# Altium footprint library 691 701 500 0xx B.PcbLib: 11 footprints
Each footprint in its own frame and in the unit in brackets; x right, y up, seen from the top. Pads: shape width x height; smd on the part's side, far side on the other; paste and mask are expansions set on the pad; w line width, h text height; cw(c..) or ccw(c..) is an arc to the next point about the centre after c.
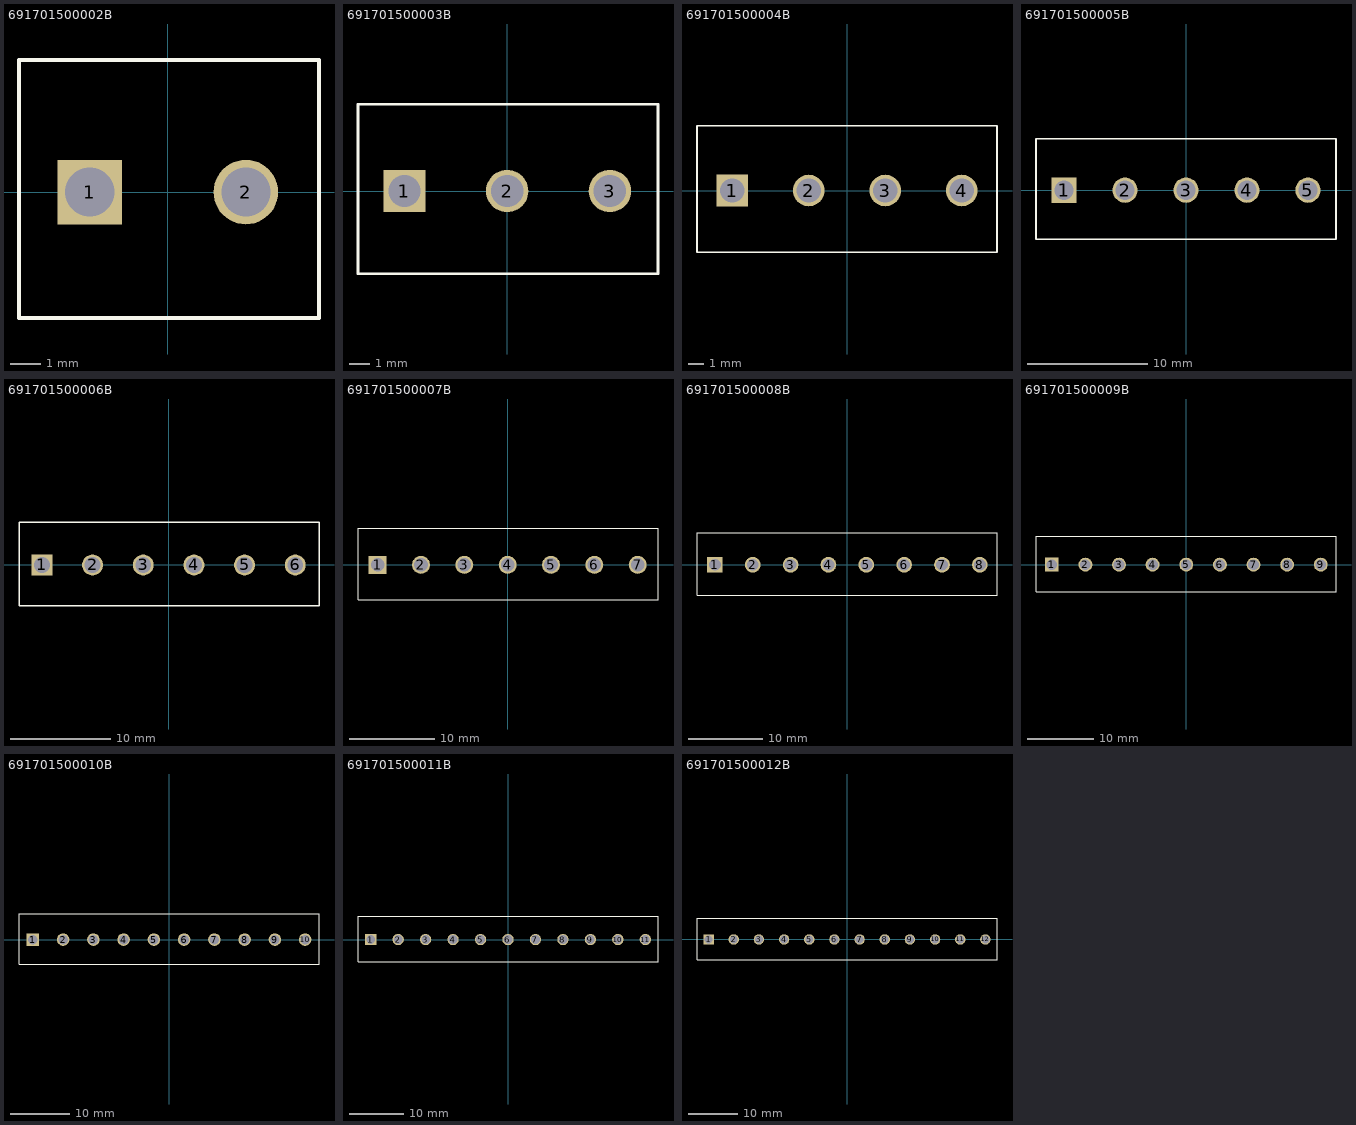
[diagram p0: the footprints below, top view; thin cyan lines are the x and y axes]

## 691701500002B [mm] "THR - 5,08mm - PCB Vertical Open - 02p"
height 12
pads (2):
  rect 2.1x2.1 hole 1.6: 1(-2.54,0)
  round 2.1 hole 1.6: 2(2.54,0)
Top Overlay:
  lines w0.127: -4.84,-4.1 -4.84,4.3 ; -4.84,-4.1 4.92,-4.1 ; -4.84,-4.1 4.92,-4.1 ; -4.84,-4.1 -4.84,4.3 ; -4.84,4.3 4.92,4.3 ; -4.84,4.3 4.92,4.3 ; 4.92,-4.1 4.92,4.3
3D body: height 12.2, standoff -2.4, extent -4.88,-3.9 4.88,4.6

## 691701500003B [mm] "THR - 5,08mm - PCB Vertical Open - 03p"
height 12
pads (3):
  rect 2.1x2.1 hole 1.6: 1(-5.08,0)
  round 2.1 hole 1.6: 2(0,0) 3(5.08,0)
Top Overlay:
  lines w0.127: 7.38,-4.1 -7.38,-4.1 ; 7.38,4.3 -7.38,4.3 ; -7.38,-4.1 -7.38,4.3 ; -7.38,-4.1 7.46,-4.1 7.46,4.3 -7.38,4.3 ; -7.38,-4.1 -7.38,4.3
3D body: height 12.2, standoff -2.4, extent -7.42,-4.5 7.42,4

## 691701500004B [mm] "THR - 5,08mm - PCB Vertical Open - 04p"
height 12
pads (4):
  rect 2.1x2.1 hole 1.6: 1(-7.62,0)
  round 2.1 hole 1.6: 2(-2.54,0) 3(2.54,0) 4(7.62,0)
Top Overlay:
  lines w0.127: -9.92,-4.1 9.96,-4.1 9.96,4.3 -9.92,4.3 ; 9.92,-4.1 -9.96,-4.1 -9.96,4.3 9.92,4.3
3D body: height 12.2, standoff -2.4, extent -9.86,-4 10.06,4.5

## 691701500005B [mm] "THR - 5,08mm - PCB Vertical Open - 05p"
height 12
pads (5):
  rect 2.1x2.1 hole 1.6: 1(-10.16,0)
  round 2.1 hole 1.6: 2(-5.08,0) 3(0,0) 4(5.08,0) 5(10.16,0)
Top Overlay:
  lines w0.127: -12.46,-4.1 12.5,-4.1 12.5,4.3 -12.46,4.3 ; 12.46,-4.1 -12.5,-4.1 -12.5,4.3 12.46,4.3
3D body: height 12.2, standoff -2.4, extent -12.4,-3.9 12.6,4.6

## 691701500006B [mm] "THR - 5,08mm - PCB Vertical Open - 06p"
height 12
pads (6):
  rect 2.1x2.1 hole 1.6: 1(-12.7,0)
  round 2.1 hole 1.6: 2(-7.62,0) 3(-2.54,0) 4(2.54,0) 5(7.62,0) 6(12.7,0)
Top Overlay:
  lines w0.127: -15,-4.1 -15,4.3 ; -15,-4.1 15.08,-4.1 ; -15,-4.1 15.08,-4.1 ; -15,-4.1 -15,4.3 ; -15,4.3 15.08,4.3 ; -15,4.3 15.08,4.3 ; 15.08,-4.1 15.08,4.3
3D body: height 12.1, standoff -2.5, extent -15.04,-3.9 15.04,4.6

## 691701500007B [mm] "THR - 5,08mm - PCB Vertical Open - 07p"
height 12
pads (7):
  rect 2.1x2.1 hole 1.6: 1(-15.24,0)
  round 2.1 hole 1.6: 2(-10.16,0) 3(-5.08,0) 4(0,0) 5(5.08,0) 6(10.16,0) 7(15.24,0)
Top Overlay:
  lines w0.127: -17.54,-4.1 -17.54,4.3 ; -17.54,-4.1 17.62,-4.1 ; -17.54,-4.1 17.62,-4.1 ; -17.54,-4.1 -17.54,4.3 ; -17.54,4.3 17.62,4.3 ; -17.54,4.3 17.62,4.3 ; 17.62,-4.1 17.62,4.3
3D body: height 12.2, standoff -2.4, extent -17.58,-3.9 17.58,4.6

## 691701500008B [mm] "THR - 5,08mm - PCB Vertical Open - 08p"
height 12
pads (8):
  rect 2.1x2.1 hole 1.6: 1(-17.78,0)
  round 2.1 hole 1.6: 2(-12.7,0) 3(-7.62,0) 4(-2.54,0) 5(2.54,0) 6(7.62,0) 7(12.7,0) 8(17.78,0)
Top Overlay:
  lines w0.127: -20.18,-4.1 20.08,-4.1 ; -20.18,4.3 20.08,4.3 ; 20.08,-4.1 20.08,4.3 ; 20.08,-4.1 20.08,4.3 ; 20.08,-4.1 -20.16,-4.1 -20.16,4.3 20.08,4.3
3D body: height 12.2, standoff -2.4, extent -20.22,-3.9 20.02,4.6

## 691701500009B [mm] "THR - 5,08mm - PCB Vertical Open - 09p"
height 12
pads (9):
  rect 2.1x2.1 hole 1.6: 1(-20.32,0)
  round 2.1 hole 1.6: 2(-15.24,0) 3(-10.16,0) 4(-5.08,0) 5(0,0) 6(5.08,0) 7(10.16,0) 8(15.24,0) 9(20.32,0)
Top Overlay:
  lines w0.127: -22.12,-4.1 22.62,-4.1 ; -22.12,4.3 22.62,4.3 ; 22.62,-4.1 22.62,4.3 ; 22.62,-4.1 22.62,4.3 ; 22.62,-4.1 -22.7,-4.1 -22.7,4.3 22.62,4.3
3D body: height 12.2, standoff -2.4, extent -22.66,-4 22.66,4.5

## 691701500010B [mm] "THR - 5,08mm - PCB Vertical Open - 10p"
height 12
pads (10):
  rect 2.1x2.1 hole 1.6: 1(-22.86,0)
  round 2.1 hole 1.6: 2(-17.78,0) 3(-12.7,0) 4(-7.62,0) 5(-2.54,0) 6(2.54,0) 7(7.62,0) 8(12.7,0) 9(17.78,0) 10(22.86,0)
Top Overlay:
  lines w0.127: -25.16,-4.1 25.2,-4.1 ; -25.16,4.3 25.2,4.3 ; 25.16,-4.1 -25.2,-4.1 ; 25.16,4.3 -25.2,4.3 ; -25.2,-4.1 -25.2,4.3 ; -25.2,-4.1 -25.2,4.3 ; 25.2,-4.1 25.2,4.3 ; 25.2,-4.1 25.2,4.3
3D body: height 12.2, standoff -2.4, extent -25.1,-4 25.3,4.5

## 691701500011B [mm] "THR - 5,08mm - PCB Vertical Open - 11p"
height 12
pads (11):
  rect 2.1x2.1 hole 1.6: 1(-25.4,0)
  round 2.1 hole 1.6: 2(-20.32,0) 3(-15.24,0) 4(-10.16,0) 5(-5.08,0) 6(0,0) 7(5.08,0) 8(10.16,0) 9(15.24,0) 10(20.32,0) 11(25.4,0)
Top Overlay:
  lines w0.127: -27.7,-4.1 27.7,-4.1 ; -27.7,4.3 27.7,4.3 ; -27.74,-4.1 -27.74,4.3 ; -27.74,-4.1 27.74,-4.1 ; -27.74,-4.1 -27.74,4.3 ; -27.74,4.3 27.74,4.3 ; 27.74,-4.1 27.74,4.3 ; 27.74,-4.1 27.74,4.3
3D body: height 12.2, standoff -2.4, extent -27.74,-3.9 27.74,4.6

## 691701500012B [mm] "THR - 5,08mm - PCB Vertical Open - 12p"
height 12
pads (12):
  rect 2.1x2.1 hole 1.6: 1(-27.94,0)
  round 2.1 hole 1.6: 2(-22.86,0) 3(-17.78,0) 4(-12.7,0) 5(-7.62,0) 6(-2.54,0) 7(2.54,0) 8(7.62,0) 9(12.7,0) 10(17.78,0) 11(22.86,0) 12(27.94,0)
Top Overlay:
  lines w0.127: -30.24,-4.1 30.28,-4.1 ; -30.24,4.3 30.28,4.3 ; 30.24,-4.1 -30.28,-4.1 ; 30.24,4.3 -30.28,4.3 ; -30.28,-4.1 -30.28,4.3 ; -30.28,-4.1 -30.28,4.3 ; 30.28,-4.1 30.28,4.3 ; 30.28,-4.1 30.28,4.3
3D body: height 12.2, standoff -2.4, extent -30.28,-3.9 30.28,4.6